# Altium footprint library ADCLK954BCPZ.PcbLib: 3 footprints
Each footprint in its own frame and in the unit in brackets; x right, y up, seen from the top. Pads: shape width x height; smd on the part's side, far side on the other; paste and mask are expansions set on the pad; w line width, h text height; cw(c..) or ccw(c..) is an arc to the next point about the centre after c.
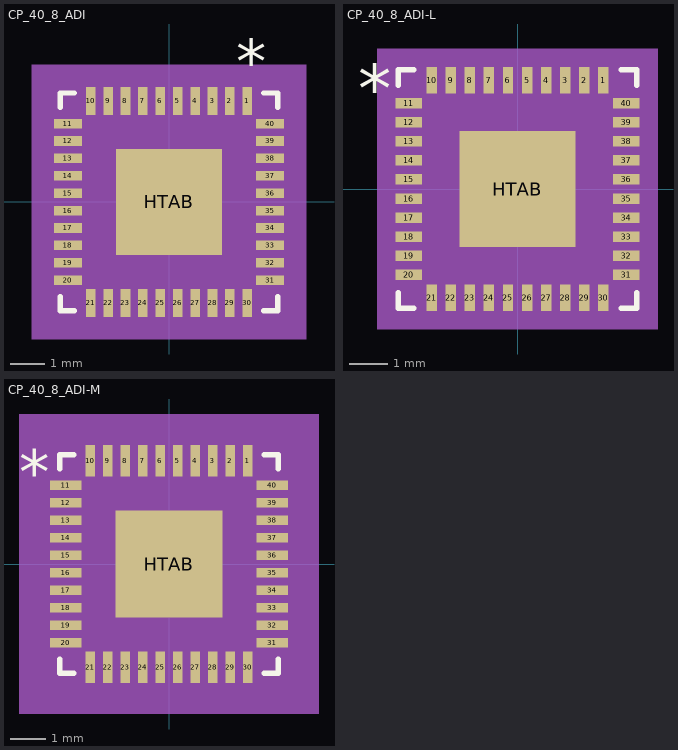
[diagram p0: the footprints below, top view; thin cyan lines are the x and y axes]

## CP_40_8_ADI [mm]
pads (41):
  rect 0.275x0.805 smd paste+0 mask+0: 1(2.25,2.902) 2(1.75,2.902) 3(1.25,2.902) 4(0.75,2.902) 5(0.25,2.902) 6(-0.25,2.902) 7(-0.75,2.902) 8(-1.25,2.902) 9(-1.75,2.902) 10(-2.25,2.902) 21(-2.25,-2.902) 22(-1.75,-2.902) 23(-1.25,-2.902) 24(-0.75,-2.902) 25(-0.25,-2.902) 26(0.25,-2.902) 27(0.75,-2.902) 28(1.25,-2.902) 29(1.75,-2.902) 30(2.25,-2.902)
  rect 0.805x0.275 smd paste+0 mask+0: 11(-2.902,2.25) 12(-2.902,1.75) 13(-2.902,1.25) 14(-2.902,0.75) 15(-2.902,0.25) 16(-2.902,-0.25) 17(-2.902,-0.75) 18(-2.902,-1.25) 19(-2.902,-1.75) 20(-2.902,-2.25) 31(2.902,-2.25) 32(2.902,-1.75) 33(2.902,-1.25) 34(2.902,-0.75) 35(2.902,-0.25) 36(2.902,0.25) 37(2.902,0.75) 38(2.902,1.25) 39(2.902,1.75) 40(2.902,2.25)
  rect 3.05x3.05 smd paste+0 mask+0: HTAB(0,0)
Top Overlay:
  lines w0.152: -3.127,-2.72 -3.127,-3.127 -2.72,-3.127 ; -3.127,2.72 -3.127,3.127 -2.72,3.127 ; 2.72,-3.127 3.127,-3.127 3.127,-2.72 ; 2.72,3.127 3.127,3.127 3.127,2.72
  text "*" at 1.933,3.41 h1.27
Top Paste:
  region: -0.1,1.425 -1.425,1.425 -1.425,0.1 -0.1,0.1
  region: -0.1,-0.1 -1.425,-0.1 -1.425,-1.425 -0.1,-1.425
  region: 1.425,1.425 0.1,1.425 0.1,0.1 1.425,0.1
  region: 1.425,-0.1 0.1,-0.1 0.1,-1.425 1.425,-1.425
Mechanical 5:
  region: 3.94,-3.94 -3.94,-3.94 -3.94,3.94 3.94,3.94
Mechanical 13:
  drawing of 168 lines, arcs and shapes, not listed
  text "*" at 2.091,2.433 h0.64
Mechanical 15:
  region: -2.641,-3.254 -3.254,-3.254 -3.254,-2.641 -3.559,-2.641 -3.559,2.641 -3.254,2.641 -3.254,3.254 -2.641,3.254 -2.641,3.559 2.641,3.559 2.641,3.254 3.254,3.254 3.254,2.641 3.559,2.641 3.559,-2.641 3.254,-2.641 3.254,-3.254 2.641,-3.254 2.641,-3.559 -2.641,-3.559
  lines w0.152: -3.559,-2.641 -3.254,-2.641 -3.254,-3.254 -2.641,-3.254 -2.641,-3.559 2.641,-3.559 2.641,-3.254 3.254,-3.254 3.254,-2.641 3.559,-2.641 3.559,2.641 3.254,2.641 3.254,3.254 2.641,3.254 2.641,3.559 -2.641,3.559 -2.641,3.254 -3.254,3.254 -3.254,2.641 -3.559,2.641 -3.559,-2.641
3D body "CP_40_8_ADI.step": height 1, standoff 0, extent -3,-3 3,3

## CP_40_8_ADI-L [mm]
pads (41):
  rect 0.275x0.703 smd paste+0 mask+0: 1(2.25,2.852) 2(1.75,2.852) 3(1.25,2.852) 4(0.75,2.852) 5(0.25,2.852) 6(-0.25,2.852) 7(-0.75,2.852) 8(-1.25,2.852) 9(-1.75,2.852) 10(-2.25,2.852) 21(-2.25,-2.852) 22(-1.75,-2.852) 23(-1.25,-2.852) 24(-0.75,-2.852) 25(-0.25,-2.852) 26(0.25,-2.852) 27(0.75,-2.852) 28(1.25,-2.852) 29(1.75,-2.852) 30(2.25,-2.852)
  rect 0.703x0.275 smd paste+0 mask+0: 11(-2.852,2.25) 12(-2.852,1.75) 13(-2.852,1.25) 14(-2.852,0.75) 15(-2.852,0.25) 16(-2.852,-0.25) 17(-2.852,-0.75) 18(-2.852,-1.25) 19(-2.852,-1.75) 20(-2.852,-2.25) 31(2.852,-2.25) 32(2.852,-1.75) 33(2.852,-1.25) 34(2.852,-0.75) 35(2.852,-0.25) 36(2.852,0.25) 37(2.852,0.75) 38(2.852,1.25) 39(2.852,1.75) 40(2.852,2.25)
  rect 3.05x3.05 smd paste+0 mask+0: HTAB(0,0)
Top Overlay:
  lines w0.152: -3.127,-2.72 -3.127,-3.127 -2.72,-3.127 ; -3.127,2.72 -3.127,3.127 -2.72,3.127 ; 2.72,-3.127 3.127,-3.127 3.127,-2.72 ; 2.72,3.127 3.127,3.127 3.127,2.72
  text "*" at -4.185,1.996 h1.27
Top Paste:
  region: -0.1,1.425 -1.425,1.425 -1.425,0.1 -0.1,0.1
  region: -0.1,-0.1 -1.425,-0.1 -1.425,-1.425 -0.1,-1.425
  region: 1.425,1.425 0.1,1.425 0.1,0.1 1.425,0.1
  region: 1.425,-0.1 0.1,-0.1 0.1,-1.425 1.425,-1.425
Mechanical 5:
  region: 3.686,-3.686 -3.686,-3.686 -3.686,3.686 3.686,3.686
Mechanical 13:
  drawing of 168 lines, arcs and shapes, not listed
  text "*" at -2.756,2.085 h0.64
Mechanical 15:
  region: -2.489,-3.102 -3.102,-3.102 -3.102,-2.489 -3.305,-2.489 -3.305,2.489 -3.102,2.489 -3.102,3.102 -2.489,3.102 -2.489,3.305 2.489,3.305 2.489,3.102 3.102,3.102 3.102,2.489 3.305,2.489 3.305,-2.489 3.102,-2.489 3.102,-3.102 2.489,-3.102 2.489,-3.305 -2.489,-3.305
  lines w0.152: -3.305,-2.489 -3.102,-2.489 -3.102,-3.102 -2.489,-3.102 -2.489,-3.305 2.489,-3.305 2.489,-3.102 3.102,-3.102 3.102,-2.489 3.305,-2.489 3.305,2.489 3.102,2.489 3.102,3.102 2.489,3.102 2.489,3.305 -2.489,3.305 -2.489,3.102 -3.102,3.102 -3.102,2.489 -3.305,2.489 -3.305,-2.489
3D body "CP_40_8_ADI.step": height 1, standoff 0, extent -3,-3 3,3

## CP_40_8_ADI-M [mm]
pads (41):
  rect 0.275x0.906 smd paste+0 mask+0: 1(2.25,2.953) 2(1.75,2.953) 3(1.25,2.953) 4(0.75,2.953) 5(0.25,2.953) 6(-0.25,2.953) 7(-0.75,2.953) 8(-1.25,2.953) 9(-1.75,2.953) 10(-2.25,2.953) 21(-2.25,-2.953) 22(-1.75,-2.953) 23(-1.25,-2.953) 24(-0.75,-2.953) 25(-0.25,-2.953) 26(0.25,-2.953) 27(0.75,-2.953) 28(1.25,-2.953) 29(1.75,-2.953) 30(2.25,-2.953)
  rect 0.906x0.275 smd paste+0 mask+0: 11(-2.953,2.25) 12(-2.953,1.75) 13(-2.953,1.25) 14(-2.953,0.75) 15(-2.953,0.25) 16(-2.953,-0.25) 17(-2.953,-0.75) 18(-2.953,-1.25) 19(-2.953,-1.75) 20(-2.953,-2.25) 31(2.953,-2.25) 32(2.953,-1.75) 33(2.953,-1.25) 34(2.953,-0.75) 35(2.953,-0.25) 36(2.953,0.25) 37(2.953,0.75) 38(2.953,1.25) 39(2.953,1.75) 40(2.953,2.25)
  rect 3.05x3.05 smd paste+0 mask+0: HTAB(0,0)
Top Overlay:
  lines w0.152: -3.127,-2.72 -3.127,-3.127 -2.72,-3.127 ; -3.127,2.72 -3.127,3.127 -2.72,3.127 ; 2.72,-3.127 3.127,-3.127 3.127,-2.72 ; 2.72,3.127 3.127,3.127 3.127,2.72
  text "*" at -4.287,1.996 h1.27
Top Paste:
  region: -0.1,1.425 -1.425,1.425 -1.425,0.1 -0.1,0.1
  region: -0.1,-0.1 -1.425,-0.1 -1.425,-1.425 -0.1,-1.425
  region: 1.425,1.425 0.1,1.425 0.1,0.1 1.425,0.1
  region: 1.425,-0.1 0.1,-0.1 0.1,-1.425 1.425,-1.425
Mechanical 5:
  region: 4.295,-4.295 -4.295,-4.295 -4.295,4.295 4.295,4.295
Mechanical 13:
  drawing of 168 lines, arcs and shapes, not listed
  text "*" at -2.858,2.085 h0.64
Mechanical 15:
  region: -2.895,-3.508 -3.508,-3.508 -3.508,-2.895 -3.914,-2.895 -3.914,2.895 -3.508,2.895 -3.508,3.508 -2.895,3.508 -2.895,3.914 2.895,3.914 2.895,3.508 3.508,3.508 3.508,2.895 3.914,2.895 3.914,-2.895 3.508,-2.895 3.508,-3.508 2.895,-3.508 2.895,-3.914 -2.895,-3.914
  lines w0.152: -3.914,-2.895 -3.508,-2.895 -3.508,-3.508 -2.895,-3.508 -2.895,-3.914 2.895,-3.914 2.895,-3.508 3.508,-3.508 3.508,-2.895 3.914,-2.895 3.914,2.895 3.508,2.895 3.508,3.508 2.895,3.508 2.895,3.914 -2.895,3.914 -2.895,3.508 -3.508,3.508 -3.508,2.895 -3.914,2.895 -3.914,-2.895
3D body "CP_40_8_ADI.step": height 1, standoff 0, extent -3,-3 3,3